# EAGLE library part MSP430G22X0 (library LiFeLight)
MSP430G22X0 http://www.ti.com/lit/ds/symlink/msp430g2210.pdf
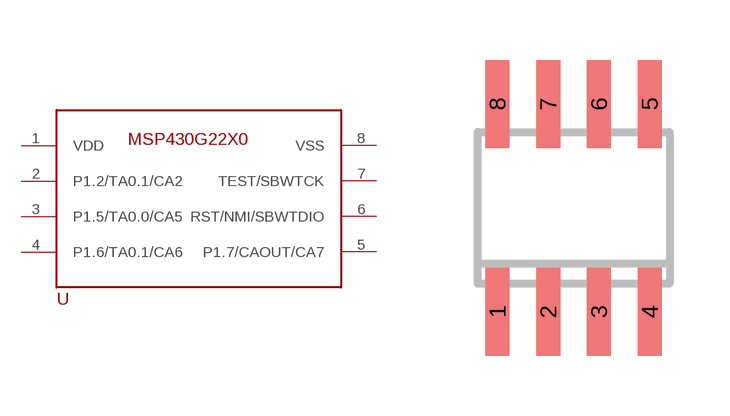
[diagram p0: symbol with the pads of SO08; footprint SO08]

Designator prefix U

## MSP430G22X0  [SO08]
1  VDD
2  P1.2/TA0.1/CA2
3  P1.5/TA0.0/CA5
4  P1.6/TA0.1/CA6
5  P1.7/CAOUT/CA7
6  RST/NMI/SBWTDIO
7  TEST/SBWTCK
8  VSS

## Footprint SO08 (pad centres in mm)
SMALL OUTLINE INTEGRATED CIRCUIT body 3.9 mm/JEDEC MS-012AA
smd 0.6 x 2.2: 1 -1.905,-2.6; 2 -0.635,-2.6; 3 0.635,-2.6; 4 1.905,-2.6; 5 1.905,2.6; 6 0.635,2.6; 7 -0.635,2.6; 8 -1.905,2.6